# Altium footprint library KN2CLib.PcbLib: 118 footprints (part 5 of 8)
Each footprint in its own frame and in the unit in brackets; x right, y up, seen from the top. Pads: shape width x height; smd on the part's side, far side on the other; paste and mask are expansions set on the pad; w line width, h text height; cw(c..) or ccw(c..) is an arc to the next point about the centre after c.
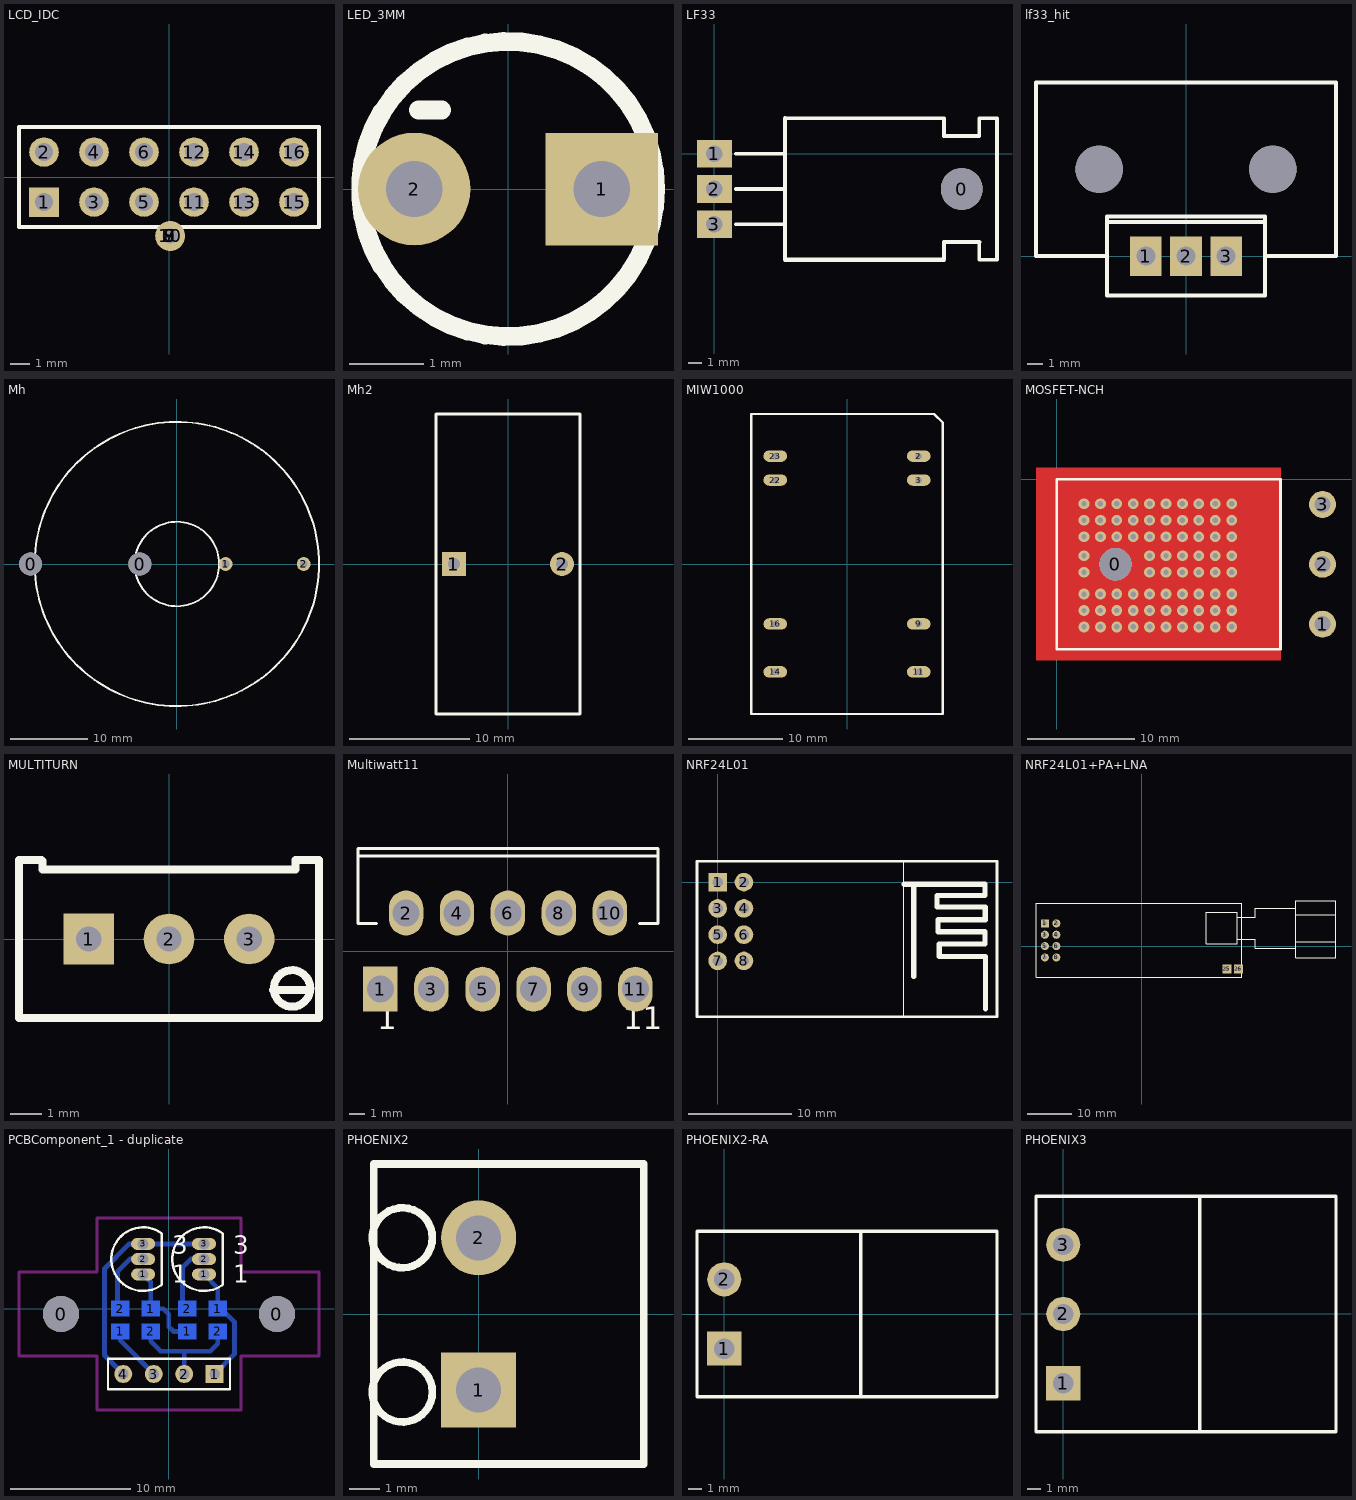
[diagram p4: the footprints below, top view; thin cyan lines are the x and y axes]

## LCD_IDC [mm]
pads (16):
  rect 1.5x1.5 hole 0.9: 1(-6.35,-1.27)
  round 1.5 hole 0.9: 2(-6.35,1.27) 3(-3.81,-1.27) 4(-3.81,1.27) 5(-1.27,-1.27) 6(-1.27,1.27) 11(1.27,-1.27) 12(1.27,1.27) 13(3.81,-1.27) 14(3.81,1.27) 15(6.35,-1.27) 16(6.35,1.27)
  round 1.524 hole 0.762: 7(0.061,-2.992) 8(0.061,-2.992) 9(0.061,-2.992) 10(0.061,-2.992)
Top Overlay:
  lines w0.2: -7.62,-2.54 -7.62,2.54 7.62,2.54 7.62,-2.54 -7.62,-2.54

## LED_3MM [mil]
pads (2):
  rect 60x60 hole 30: 1(50,0)
  round 60 hole 30: 2(-50,0)
Top Overlay:
  circle w10: c0,0 r78.74
  lines w10: -47.7,42.1 -35.3,42.1
3D body: height 118.11, standoff 0, extent -79.72,-77.76 79.72,75.79

## LF33 [mm]
pads (4):
  round 3 hole 3: 0(17.78,-2.54)
  rect 2.5x2 hole 1.2: 1(0,0) 2(0,-2.54) 3(0,-5.08)
Top Overlay:
  lines w0.254: 1.524,-5.08 5.08,-5.08 ; 1.524,-2.54 5.08,-2.54 ; 1.524,0 5.08,0 ; 5.08,2.54 16.51,2.54 16.51,1.27 19.05,1.27 19.05,2.54 20.32,2.54 20.32,-7.62 19.05,-7.62 19.05,-6.35
  lines w0.305: 5.08,2.54 5.08,-7.62 16.51,-7.62 16.51,-6.35 19.05,-6.35
3D body: height 4, standoff 0, extent 5.15,-7.625 20.325,2.525

## lf33_hit [mm]
pads (5):
  rect 2x2.5 hole 1.2: 1(-2.54,0) 2(0,0) 3(2.54,0)
  round 3 hole 3: ""(-5.5,5.5) ""(5.5,5.5)
Top Overlay:
  lines w0.254: -5,0 -9.5,0 -9.5,11 9.5,11 9.5,0 5,0 ; -5,2.159 5,2.159 ; -5,-2.5 5,-2.5 5,2.5 -5,2.5 -5,-2.5
3D body: height 4, standoff 0, extent -9.525,-2.45 9.525,11.025

## Mh [mm]
pads (4):
  round 3 hole 3: 0(-19.05,0) 0(-4.826,0)
  round 1.8 hole 1: 1(6.35,0) 2(16.51,0)
Top Overlay:
  circle w0.254: c0,0 r5.5
  circle w0.254: c0,0 r18.5
3D body: height 5, standoff 0, extent -18.5,-18.5 18.575,18.525

## Mh2 [mm]
pads (2):
  rect 2x2 hole 1: 1(-4.5,0)
  round 2 hole 1: 2(4.5,0)
Top Overlay:
  lines w0.254: -6,-12.5 -6,12.5 6,12.5 6,-12.5 -6,-12.5
3D body: height 4, standoff 0, extent -5.95,-12.45 5.925,12.525

## MIW1000 [mm]
pads (8):
  oval 2.5x1.2 hole 0.7: 2(7.61,11.43) 3(7.61,8.89) 9(7.61,-6.35) 11(7.61,-11.43) 14(-7.61,-11.43) 16(-7.61,-6.35) 22(-7.61,8.89) 23(-7.61,11.43)
Top Overlay:
  lines w0.254: -10.15,-15.9 10.15,-15.9 10.15,14.983 9.233,15.9 -10.15,15.9 -10.15,-15.9
3D body: height 4, standoff 0, extent -10.1,-15.975 10.1,15.8

## MOSFET-NCH [mm]
pads (4):
  round 3 hole 3: 0(5.46,-7.9)
  round 2.5 hole 1.5: 1(24.7,-13.46) 2(24.7,-7.9) 3(24.7,-2.34)
via 11.684,-8.636 diameter 1 hole 0.5
via 13.208,-8.636 diameter 1 hole 0.5
via 10.16,-8.636 diameter 1 hole 0.5
via 8.636,-8.636 diameter 1 hole 0.5
via 16.256,-8.636 diameter 1 hole 0.5
via 14.732,-8.636 diameter 1 hole 0.5
via 11.684,-7.112 diameter 1 hole 0.5
via 13.208,-7.112 diameter 1 hole 0.5
via 10.16,-7.112 diameter 1 hole 0.5
via 8.636,-7.112 diameter 1 hole 0.5
via 16.256,-7.112 diameter 1 hole 0.5
via 14.732,-7.112 diameter 1 hole 0.5
via 14.732,-2.286 diameter 1 hole 0.5
via 16.256,-2.286 diameter 1 hole 0.5
via 8.636,-2.286 diameter 1 hole 0.5
via 10.16,-2.286 diameter 1 hole 0.5
via 13.208,-2.286 diameter 1 hole 0.5
via 11.684,-2.286 diameter 1 hole 0.5
via 5.588,-2.286 diameter 1 hole 0.5
via 7.112,-2.286 diameter 1 hole 0.5
via 4.064,-2.286 diameter 1 hole 0.5
via 2.54,-2.286 diameter 1 hole 0.5
via 14.732,-3.81 diameter 1 hole 0.5
via 16.256,-3.81 diameter 1 hole 0.5
via 8.636,-3.81 diameter 1 hole 0.5
via 10.16,-3.81 diameter 1 hole 0.5
via 13.208,-3.81 diameter 1 hole 0.5
via 11.684,-3.81 diameter 1 hole 0.5
via 5.588,-3.81 diameter 1 hole 0.5
via 7.112,-3.81 diameter 1 hole 0.5
via 4.064,-3.81 diameter 1 hole 0.5
via 2.54,-3.81 diameter 1 hole 0.5
via 14.732,-5.334 diameter 1 hole 0.5
via 16.256,-5.334 diameter 1 hole 0.5
via 8.636,-5.334 diameter 1 hole 0.5
via 10.16,-5.334 diameter 1 hole 0.5
via 13.208,-5.334 diameter 1 hole 0.5
via 11.684,-5.334 diameter 1 hole 0.5
via 5.588,-5.334 diameter 1 hole 0.5
via 7.112,-5.334 diameter 1 hole 0.5
via 4.064,-5.334 diameter 1 hole 0.5
via 2.54,-5.334 diameter 1 hole 0.5
via 2.54,-13.716 diameter 1 hole 0.5
via 4.064,-13.716 diameter 1 hole 0.5
via 7.112,-13.716 diameter 1 hole 0.5
via 5.588,-13.716 diameter 1 hole 0.5
via 11.684,-13.716 diameter 1 hole 0.5
via 13.208,-13.716 diameter 1 hole 0.5
via 10.16,-13.716 diameter 1 hole 0.5
via 8.636,-13.716 diameter 1 hole 0.5
via 16.256,-13.716 diameter 1 hole 0.5
via 14.732,-13.716 diameter 1 hole 0.5
via 2.54,-12.192 diameter 1 hole 0.5
via 4.064,-12.192 diameter 1 hole 0.5
via 7.112,-12.192 diameter 1 hole 0.5
via 5.588,-12.192 diameter 1 hole 0.5
via 11.684,-12.192 diameter 1 hole 0.5
via 13.208,-12.192 diameter 1 hole 0.5
via 10.16,-12.192 diameter 1 hole 0.5
via 8.636,-12.192 diameter 1 hole 0.5
via 16.256,-12.192 diameter 1 hole 0.5
via 14.732,-12.192 diameter 1 hole 0.5
via 2.54,-10.668 diameter 1 hole 0.5
via 4.064,-10.668 diameter 1 hole 0.5
via 7.112,-10.668 diameter 1 hole 0.5
via 5.588,-10.668 diameter 1 hole 0.5
via 11.684,-10.668 diameter 1 hole 0.5
via 13.208,-10.668 diameter 1 hole 0.5
via 10.16,-10.668 diameter 1 hole 0.5
via 8.636,-10.668 diameter 1 hole 0.5
via 16.256,-10.668 diameter 1 hole 0.5
via 14.732,-10.668 diameter 1 hole 0.5
via 2.54,-7.112 diameter 1 hole 0.5
via 2.54,-8.636 diameter 1 hole 0.5
Top Layer:
  rectangle: 1.27,-14.732 18.034,-1.27
  pour cut-out: 20.795,1.044 -1.915,1.044 -1.915,-16.792 20.81,-16.792 20.81,1.029
Bottom Layer:
  rectangle: 1.27,-14.732 18.034,-1.27
  pour cut-out: 0.003,-0.003 19.632,-0.003 19.632,-15.824 0,-15.824 0,-0.005
Top Overlay:
  lines w0.254: 0,-15.8 0,0 20.8,0 20.8,-15.8 0,-15.8
3D body: height 4.82, standoff 0.24, extent 0,-15.748 20.828,0

## MULTITURN [mm]
pads (3):
  rect 1.6x1.6 hole 0.8: 1(-2.54,0)
  round 1.6 hole 0.8: 2(0,0) 3(2.54,0)
Top Overlay:
  circle w0.254: c3.895,-1.565 r0.578
  lines w0.254: -4.036,2.5 -4.75,2.5 -4.75,-2.5 4.75,-2.5 4.75,2.5 4,2.5 ; -4,2.464 -4,2.2 4,2.2 4,2.493 ; 3.289,-1.615 4.422,-1.615
3D body: height 4, standoff 0, extent -4.775,-2.5 4.725,2.525

## Multiwatt11 [mm] "TO, Thru-Hole, Vertical, Heatsink Mounted; 11 Bent Staggered Leads; Pitch 1.7 mm"
height 21
pads (11):
  rect 2.3x3 hole 1.8: 1(-8.5,-2.54)
  oval 2.3x3 hole 1.8: 2(-6.8,2.54) 3(-5.1,-2.54) 4(-3.4,2.54) 5(-1.7,-2.54) 6(0,2.54) 7(1.7,-2.54) 8(3.4,2.54) 9(5.1,-2.54) 10(6.8,2.54) 11(8.5,-2.54)
Top Overlay:
  lines w0.2: -10,6.33 9.9,6.33 ; -8.754,1.83 -10,1.83 -10,6.83 10,6.83 10,1.83 8.774,1.83
  text "11" at 7.67,-5.215 h1.5
  text "1" at -8.73,-5.215 h1.5
3D body: height 4, standoff 0, extent -10,-0.225 10,6.85

## NRF24L01 [mm]
pads (8):
  rect 1.8x1.8 hole 1: 1(0,0)
  round 1.8 hole 1: 2(2.54,0) 3(0,-2.54) 4(2.54,-2.54) 5(0,-5.08) 6(2.54,-5.08) 7(0,-7.62) 8(2.54,-7.62)
Top Overlay:
  lines w0.1: 18,-13 18,2
  lines w0.254: -2,-13 -2,2 27,2 27,-13 -2,-13
  lines w0.5: 18.034,-0.203 25.832,-0.203 25.832,-1.295 21.209,-1.295 21.209,-2.413 25.857,-2.413 25.857,-3.632 21.311,-3.632 21.311,-4.801 25.832,-4.801 25.832,-5.994 21.412,-5.994 21.412,-7.188 25.883,-7.188 25.883,-12.243 ; 18.948,-9.119 18.948,-0.356

## NRF24L01+PA+LNA [mm]
pads (10):
  rect 1.8x1.8 hole 1: 1(-21.59,5.08)
  round 1.8 hole 1: 2(-19.05,5.08) 3(-21.59,2.54) 4(-19.05,2.54) 5(-21.59,0) 6(-19.05,0) 7(-21.59,-2.54) 8(-19.05,-2.54)
  rect 2x2 hole 1: 25(19.05,-5.08) 26(21.59,-5.08)
Top Overlay:
  lines w0.254: 21.361,1.524 25.375,1.524 ; 21.412,6.477 25.375,6.477 ; 25.407,6.488 25.407,8.488 34.407,8.488 34.407,-0.512 25.407,-0.512 ; 34.341,8.484 34.392,8.484 34.392,10.16 43.409,10.16 43.409,-2.616 34.417,-2.616 ; 34.392,-2.616 34.392,-0.152 ; 34.407,0.988 43.407,0.988 43.407,6.988 34.407,6.988 ; 25.407,-0.512 25.407,1.488 25.407,-0.512 ; -23.59,-6.98 -23.59,9.52 22.41,9.52 22.41,-6.98 -23.59,-6.98 ; 14.41,0.52 21.41,0.52 21.41,7.52 14.41,7.52 14.41,0.52

## PCBComponent_1 - duplicate [mm]
pads (20):
  round 3 hole 3: 0(-9,-0.421) 0(9,-0.421)
  rect 1.5x1.3 smd far side: 1(-4.064,-1.879) 1(-1.524,0.021) 1(1.524,-1.879) 1(4.064,0.021) 2(-4.064,0.021) 2(-1.524,-1.879) 2(1.524,0.021) 2(4.064,-1.879)
  oval 2x1 hole 0.9: 1(-2.159,2.881) 1(2.921,2.881) 2(-2.159,4.151) 2(2.921,4.151) 3(-2.159,5.421) 3(2.921,5.421)
  rect 1.5x1.5 hole 0.9: 1(3.81,-5.421)
  round 1.5 hole 0.9: 2(1.27,-5.421) 3(-1.27,-5.421) 4(-3.81,-5.421)
Bottom Layer:
  lines w0.4: -4.064,-1.879 -4.064,-2.627 -1.27,-5.421 ; -3.81,-5.421 -5.375,-3.856 -5.375,3.354 -3.308,5.421 -2.159,5.421 2.921,5.421 ; -3.81,0.021 -3.937,0.148 -4.3,0.511 -4.3,3.104 -3.253,4.151 -2.159,4.151 ; -2.159,2.881 -1.524,2.246 -1.524,0.021 -0.492,0.021 -0.025,-0.446 -0.025,-1.471 0.383,-1.879 1.524,-1.879 ; -1.524,-1.879 -1.524,-2.697 -0.7,-3.521 1.3,-3.521 ; 1.27,-5.421 1.27,-3.551 1.3,-3.521 ; 1.524,0.021 1.12,0.425 1.12,3.449 1.822,4.151 2.921,4.151 ; 2.921,2.881 4.064,1.738 4.064,0.021 4.358,0.021 5.45,-1.071 5.45,-3.781 3.81,-5.421 ; 4.064,-1.879 4.064,-2.882 3.425,-3.521 1.3,-3.521
Top Overlay:
  lines w0.2: -0.639,1.98 cw(c-2.159,4.151) -0.639,6.322 ; -0.609,2.051 -0.609,6.251 ; 4.441,1.98 cw(c2.921,4.151) 4.441,6.322 ; 4.471,2.051 4.471,6.251 ; -5.08,-6.691 -5.08,-4.151 5.08,-4.151 5.08,-6.691 -5.08,-6.691
  text "3" at 0.262,4.618 h1.5
  text "1" at 0.262,2.172 h1.5
  text "3" at 5.342,4.618 h1.5
  text "1" at 5.342,2.172 h1.5
Keep-Out Layer:
  lines w0.254: -12.5,-3.921 -12.5,3.079 -6,3.079 -6,7.579 6,7.579 6,3.079 12.5,3.079 12.5,-3.921 6,-3.921 6,-8.421 -6,-8.421 -6,-3.921 -12.5,-3.921

## PHOENIX2 [mm]
pads (2):
  rect 2.5x2.5 hole 1.5: 1(0,-2.54)
  round 2.5 hole 1.5: 2(0,2.54)
Top Overlay:
  circle w0.254: c-2.54,-2.6 r1
  circle w0.254: c-2.54,2.54 r1
  lines w0.254: -3.5,-5 5.5,-5 5.5,5 -3.5,5 -3.5,-5
3D body: height 8.6, standoff 0, extent -3.5,-5.013 5.475,4.975

## PHOENIX2-RA [mm]
pads (2):
  rect 2.5x2.5 hole 1.5: 1(0,-2.54)
  round 2.5 hole 1.5: 2(0,2.54)
Top Overlay:
  lines w0.254: 10,-6.08 10,6.08 ; -2,-6.08 -2,6.08 20,6.08 20,-6.08 -2,-6.08
3D body: height 15, standoff 0, extent 10.008,-6.045 19.964,6.096
3D body: height 8.6, standoff 0, extent -1.981,-6.071 10.008,6.096

## PHOENIX3 [mm]
pads (3):
  rect 2.5x2.5 hole 1.5: 1(0,-5.08)
  round 2.5 hole 1.5: 2(0,0) 3(0,5.08)
Top Overlay:
  lines w0.254: 10,-8.62 10,8.62 ; -2,-8.62 20,-8.62 20,8.62 -2,8.62 -2,-8.62
3D body: height 8.6, standoff 0, extent -1.981,-8.611 10.008,8.611
3D body: height 15, standoff 0, extent 10.008,-8.585 19.964,8.611